# Altium footprint library diode.PcbLib: 4 footprints
Each footprint in its own frame and in the unit in brackets; x right, y up, seen from the top. Pads: shape width x height; smd on the part's side, far side on the other; paste and mask are expansions set on the pad; w line width, h text height; cw(c..) or ccw(c..) is an arc to the next point about the centre after c.
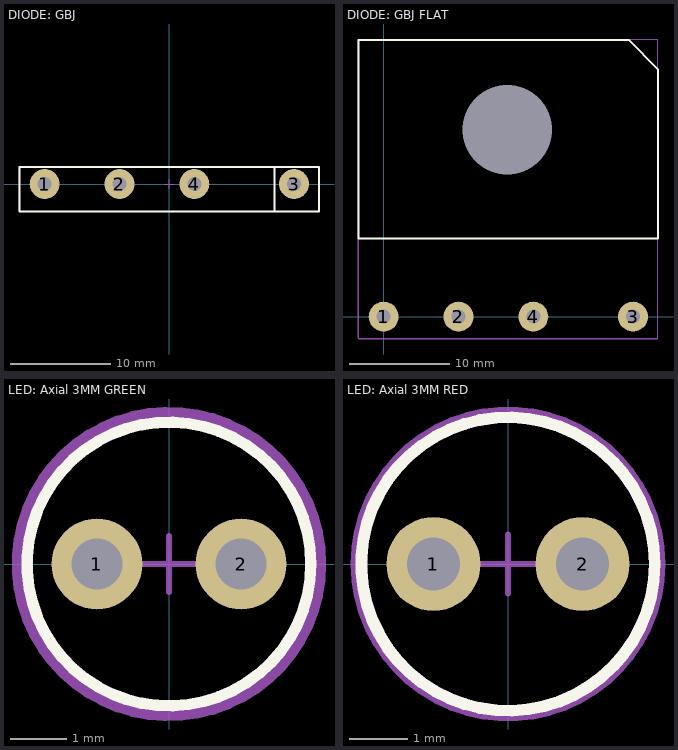
[diagram p0: the footprints below, top view; thin cyan lines are the x and y axes]

## DIODE: GBJ [mm]
height 22
pads (4):
  round 3 hole 1.4: 1(-12.5,0) 2(-5,0) 3(12.5,0) 4(2.5,0)
Top Overlay:
  lines w0.2: 10.54,-2.675 10.54,1.7 ; -15.025,-2.75 15,-2.75 15,1.725 -15.025,1.725 -15.025,-2.75
Mechanical 1:
  lines w0.1: 10.55,-2.75 10.55,1.725 ; -15.075,-2.75 15,-2.75 15,1.725 -15.075,1.725 -15.075,-2.75
Mechanical 15:
  lines w0.1: -0.5,0 0.5,0 ; 0,-0.5 0,0.5 ; -15,-2.75 -15,1.75 15,1.75 15,-2.75 -15,-2.75
3D body "GBJ.SLDPRT": height 28.5, standoff -9, extent -14.975,-2.8 15.025,1.8

## DIODE: GBJ FLAT [mm]
height 22
pads (5):
  round 3 hole 1.4: 1(0,0) 2(7.5,0) 3(25,0) 4(15,0)
  round 0 hole 9 unplated paste+0 mask+0: ""(12.4,18.75)
Top Overlay:
  lines w0.2: -2.525,7.817 -2.525,27.75 24.55,27.75 27.5,24.8 27.5,7.817 ; -2.521,7.817 27.504,7.817
Mechanical 1:
  lines w0.1: -2.575,-2.175 -2.575,27.8 27.5,27.8 27.5,-2.175 -2.575,-2.175
Mechanical 15:
  lines w0.1: -2.5,-2.2 27.5,-2.2 27.5,27.8 -2.5,27.8 -2.5,-2.2
3D body "User Library-GBJ-1_.step": height 7.05, standoff 2.45, extent -2.5,-2.2 27.5,27.8

## LED: Axial 3MM GREEN [mm]
height 11
pads (2):
  round 1.6 hole 0.9: 1(-1.27,0) 2(1.27,0)
Top Overlay:
  circle w0.2: c0,0 r2.5
Mechanical 1:
  circle w0.1: c0,0 r2.5
  circle w0.254: c0,0 r2.643
Mechanical 15:
  circle w0.1: c0,0 r2.5
  circle w0.254: c0,0 r2.59
  lines w0.1: -0.5,0 0.5,0 ; 0,-0.5 0,0.5
3D body "User Library-LED-D3G.STEP": height 7.6, standoff -3.5, extent -1.967,-2 1.7,2

## LED: Axial 3MM RED [mm]
height 11
pads (2):
  round 1.6 hole 0.9: 1(-1.27,0) 2(1.27,0)
Top Overlay:
  circle w0.2: c0,0 r2.5
Mechanical 1:
  circle w0.254: c0,0 r2.556
  circle w0.1: c0,0 r2.5
Mechanical 15:
  circle w0.254: c0,0 r2.53
  circle w0.1: c0,0 r2.5
  lines w0.1: -0.5,0 0.5,0 ; 0,-0.5 0,0.5
3D body "CircuitWorks-LED DIP 3MM.step": height 6.5, standoff -2, extent -1.9,-1.9 1.6,1.9